# Altium schematic symbol library SCH - LOGIC - SN74AC11PWR.SCHLIB: 1 symbol
Pins are listed as number, name and electrical type; pins without a type are passive.

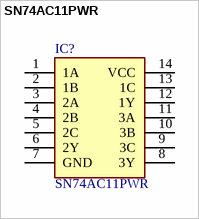
[diagram p0: symbol SN74AC11PWR]

## SN74AC11PWR
designator IC?
Logic gate triple input; AND; Manufacturer_Name: Texas Instruments; Datasheet Link: http://www.ti.com/lit/gpn/sn74ac11; Height: 1.2mm; Manufacturer_Part_Number: SN74AC11PWR; Mouser Part Number: 595-SN74AC11PWR; Mouser Price/Stock: https://www.mouser.co.uk/ProductDetail/Texas-Instruments/SN74AC11PWR?qs=6aLkNDRfRUYvDd0czuatlw%3D%3D; Arrow Part Number: SN74AC11PWR; Arrow Price/Stock: https://www.arrow.com/en/products/sn74ac11pwr/texas-instruments
pins: 1 1A, 2 1B, 3 2A, 4 2B, 5 2C, 6 2Y, 7 GND, 8 3Y, 9 3C, 10 3B, 11 3A, 12 1Y, 13 1C, 14 VCC